# Altium footprint library CC2650RC_4MOD1106_rev1_6.PcbLib: 33 footprints (part 1 of 3)
Each footprint in its own frame and in the unit in brackets; x right, y up, seen from the top. Pads: shape width x height; smd on the part's side, far side on the other; paste and mask are expansions set on the pad; w line width, h text height; cw(c..) or ccw(c..) is an arc to the next point about the centre after c.
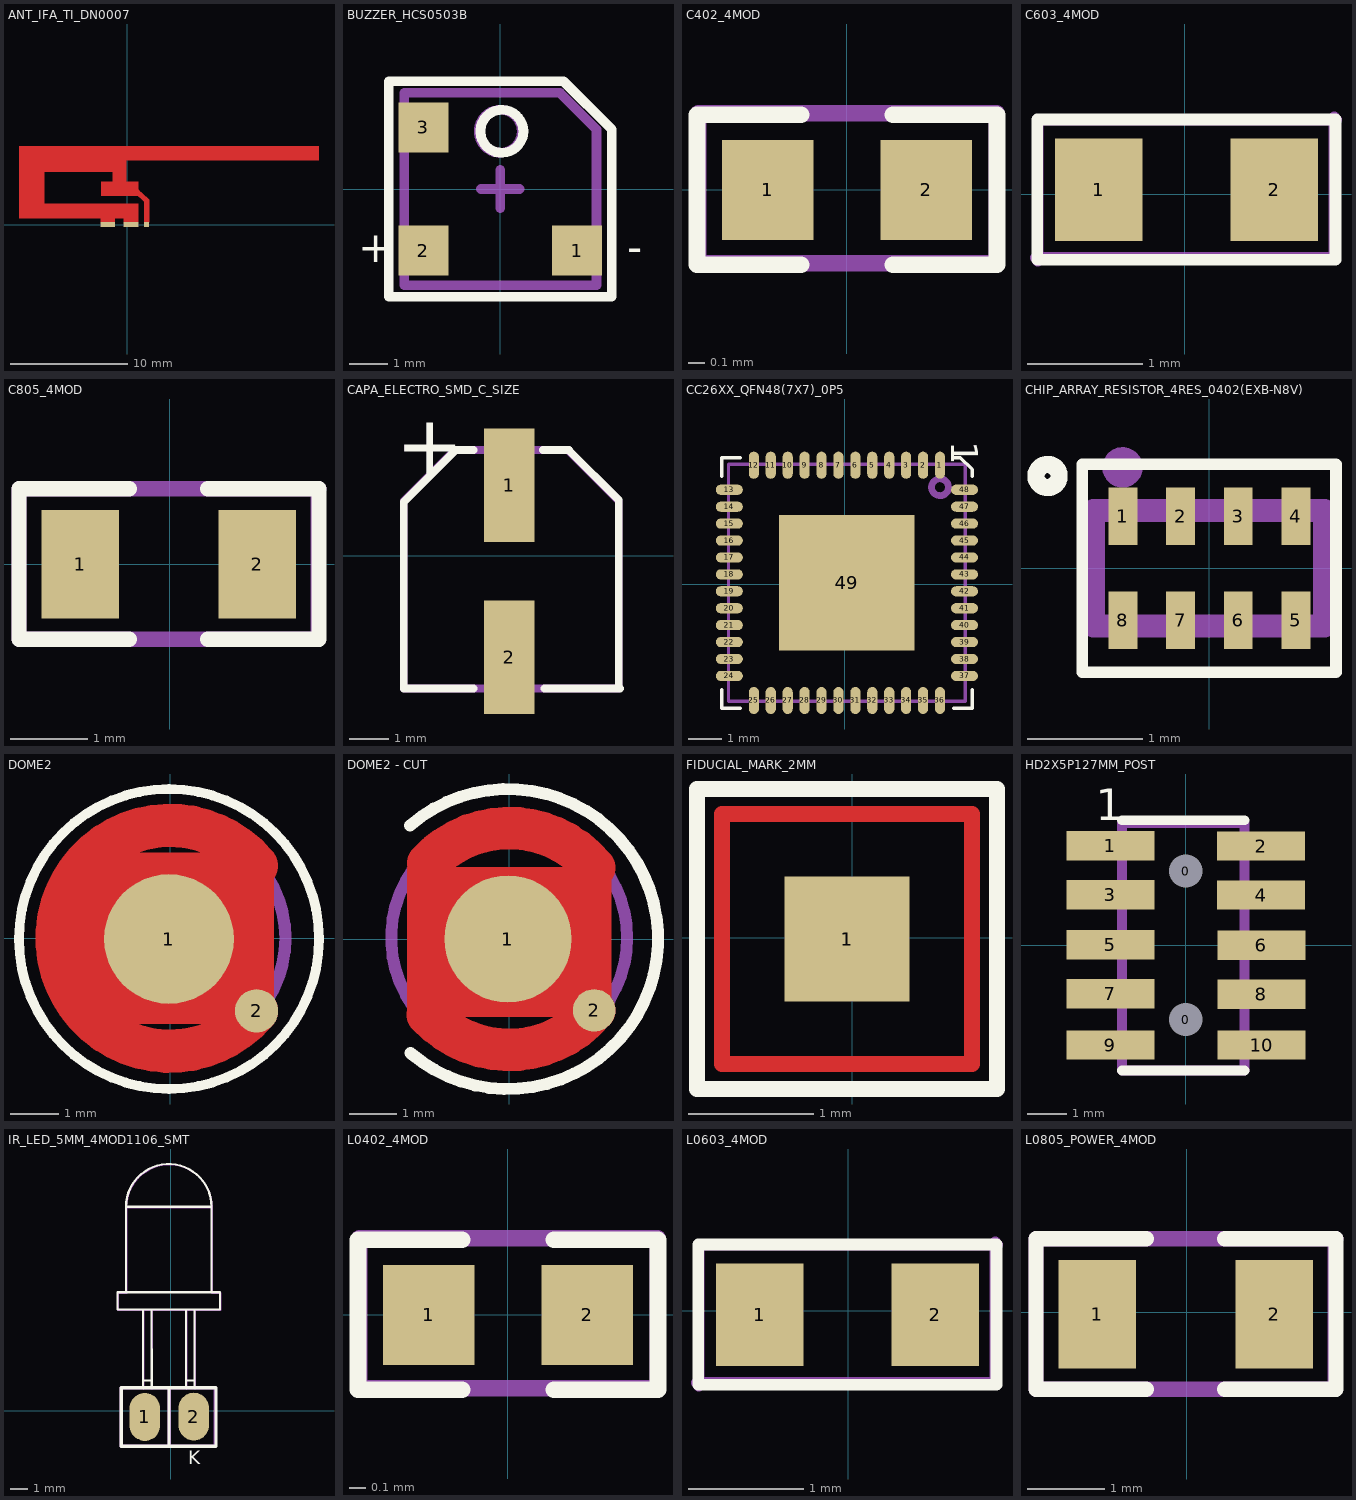
[diagram p0: the footprints below, top view; thin cyan lines are the x and y axes]

## ANT_IFA_TI_DN0007 [mm]
pads (3):
  rect 0.45x0.45 smd paste-1 mask-1: 1(1.653,-0.002)
  rect 1.25x0.45 smd paste-1 mask-1: 2(-1.652,0.003) 2(0.333,-0.002)
Top Layer:
  rectangle: -9.222,4.473 -0.041,6.682
  rectangle: -9.222,5.471 16.356,6.682
  rectangle: -9.222,0.518 -7.036,6.682
  rectangle: -9.222,0.518 0.956,1.801
  rectangle: -1.24,3.315 -0.041,4.473
  rectangle: -2.241,2.418 0.959,3.668
  rectangle: 1.422,0.175 1.885,2.014
  rectangle: -0.293,0.2 0.956,0.538
  rectangle: -2.276,0.2 -1.027,0.68
  lines w0.46: 0.823,2.828 1.658,2.031

## BUZZER_HCS0503B [mm]
pads (3):
  rect 1.3x1.3 smd: 1(2,-1.6) 2(-2,-1.6) 3(-2,1.6)
Top Overlay:
  circle w0.254: c0.041,1.5 r0.559
  lines w0.254: -2.9,-2.8 -2.9,2.8 1.65,2.8 2.9,1.55 2.9,-2.8 -2.9,-2.8
  text "-" at 3.3,-1.9 h0.8
  text "+" at -3.7,-1.9 h0.8
Mechanical 16:
  circle w0.254: c0,1.5 r0.559
  lines w0.254: -0.5,0 0.5,0 ; 0,-0.5 0,0.5 ; -2.5,-2.5 -2.5,2.5 1.55,2.5 2.5,1.55 2.5,-2.5 -2.5,-2.5
Mechanical 27:
  text ".Designator" at -2.044,1.812 h0.8
  text "-" at 0.4,-1.9 h0.8
  text "+" at -1,-1.9 h0.8
3D body: height 3.1, standoff 2.8, extent -0.446,1.051 0.45,1.949
3D body: height 3.1, standoff 2.8, extent -2.3,-2.299 -1.503,-1.501
3D body: height 3.02, standoff 0.02, extent -2.5,-2.5 2.5,2.5

## C402_4MOD [mil]
height 19.68
pads (2):
  rect 22x24 smd: 1(-19,0) 2(19,0)
Top Overlay:
  lines w4: -11,-18 -36,-18 -36,18 -11,18 ; 11,-18 36,-18 36,18 11,18
Mechanical 16:
  lines w4: -35.71,-17.17 -35.71,18.43 35.94,18.43 35.94,-17.57 -35.31,-17.57 -35.71,-17.17
Mechanical 27:
  text ".Designator" at -33.96,-8.07 h19.68
3D body "User Library-0402(1005M) Cap.step": height 20.1, standoff 0, extent -20.87,-10.84 19.13,9.16

## C603_4MOD [mil]
pads (2):
  rect 30x35 smd: 1(-29.35,1.65) 2(30.65,1.65)
Top Overlay:
  lines w4: -50.35,-22.35 51.65,-22.35 51.65,25.65 -50.35,25.65 -50.35,-22.35
Mechanical 16:
  lines w4: -50.82,-21.65 51.18,-21.65 51.18,26.35 ; -50.2,-22.64 -50.2,25.36 ; -50.2,25.59 51.8,25.59
Mechanical 27:
  text ".Designator" at -43.31,-13.78 h19.68
3D body "User Library-0603(1608M) Cap.step": height 31.1, standoff 0, extent -40.36,-14.51 38.39,16.49

## C805_4MOD [mm]
pads (2):
  rect 1x1.4 smd: 1(-1.16,0) 2(1.126,0)
Top Overlay:
  lines w0.2: -0.525,-0.97 -1.95,-0.97 -1.95,0.98 -0.525,0.98 ; 0.491,-0.97 1.925,-0.97 1.925,0.98 0.491,0.98
Mechanical 16:
  lines w0.2: 1.915,0.98 1.915,-0.97 -1.95,-0.97 -1.95,0.98 1.925,0.98
3D body "User Library-0805 SMD Capacitor.SLDPRT": height 0.78, standoff 0, extent -1,-0.625 1,0.625

## CAPA_ELECTRO_SMD_C_SIZE [mm]
pads (2):
  rect 1.3x2.9 smd: 1(14.4,1.8) 2(14.4,-2.6)
Top Overlay:
  lines w0.2: 13.486,-3.4 11.7,-3.399 11.7,1.375 13.025,2.7 13.486,2.7 ; 15.264,2.7 15.925,2.7 17.2,1.425 17.2,-3.365 ; 15.3,-3.4 17.236,-3.398
  text "+" at 11.5,2.1 h1.52
Mechanical 16:
  lines w0.2: 11.7,-3.4 11.7,1.4 13,2.7 15.9,2.7 17.2,1.4 17.2,-3.4 11.7,-3.4
Mechanical 27:
  text ".Designator" at 12.45,-0.725 h0.8
  text "+" at 11.5,2.1 h1.52
3D body "Aluminium Elektrolyt Capacitor_C_Package_D=5mm_ A_B=5.3mm_H=5.4mm.step": height 5.41, standoff 0, extent 11.825,-3.325 17.125,2.575

## CC26XX_QFN48(7X7)_0P5 [mm]
pads (49):
  oval 0.3x0.8 smd: 1(2.82,3.511) 2(2.32,3.511) 3(1.82,3.511) 4(1.32,3.511) 5(0.82,3.511) 6(0.32,3.511) 7(-0.18,3.511) 8(-0.68,3.511) 9(-1.18,3.511) 10(-1.68,3.511) 11(-2.18,3.511) 12(-2.68,3.511) 25(-2.68,-3.439) 26(-2.18,-3.439) 27(-1.68,-3.439) 28(-1.18,-3.439) 29(-0.68,-3.439) 30(-0.18,-3.439) 31(0.32,-3.439) 32(0.82,-3.439) 33(1.32,-3.439) 34(1.82,-3.439) 35(2.32,-3.439) 36(2.82,-3.439)
  oval 0.8x0.3 smd: 13(-3.405,2.786) 14(-3.405,2.286) 15(-3.405,1.786) 16(-3.405,1.286) 17(-3.405,0.786) 18(-3.405,0.286) 19(-3.405,-0.214) 20(-3.405,-0.714) 21(-3.405,-1.214) 22(-3.405,-1.714) 23(-3.405,-2.214) 24(-3.405,-2.714) 37(3.545,-2.714) 38(3.545,-2.214) 39(3.545,-1.714) 40(3.545,-1.214) 41(3.545,-0.714) 42(3.545,-0.214) 43(3.545,0.286) 44(3.545,0.786) 45(3.545,1.286) 46(3.545,1.786) 47(3.545,2.286) 48(3.545,2.786)
  rect 4x4 smd: 49(0.07,0.036)
Top Overlay:
  lines w0.1: -3.63,-3.114 -3.63,-3.664 -3.08,-3.664 ; -3.63,3.186 -3.63,3.736 -3.08,3.736 ; 3.22,-3.664 3.77,-3.664 3.77,-3.114 ; 3.22,3.736 3.42,3.736 3.77,3.386 3.77,3.186
  text "1" at 3.15,4.225 h0.8
Mechanical 16:
  circle w0.2: c2.82,2.861 r0.25
  lines w0.1: -3.43,-3.464 -3.43,3.536 3.57,3.536 3.57,-3.464 -3.43,-3.464
Mechanical 27:
  text ".Designator" at 0.869,-0.787 h0.8
3D body "User Library-QFN48_0P5_7X7mm.step": height 0.78, standoff -0.02, extent -3.43,-3.49 3.59,3.53

## CHIP_ARRAY_RESISTOR_4RES_0402(EXB-N8V) [mm]
pads (8):
  rect 0.25x0.5 smd: 1(-0.747,0.45) 2(-0.248,0.45) 3(0.252,0.45) 4(0.753,0.45) 5(0.753,-0.45) 6(0.252,-0.45) 7(-0.248,-0.45) 8(-0.747,-0.45)
Top Overlay:
  circle w0.15: c-1.4,0.8 r0.1
  lines w0.1: -1.1,-0.9 1.1,-0.9 1.1,0.9 -1.1,0.9 -1.1,-0.9
Mechanical 16:
  circle w0.15: c-0.75,0.875 r0.1
  lines w0.2: -1,-0.5 1,-0.5 1,0.5 -1,0.5 -1,-0.5
Mechanical 27:
  text ".Designator" at -0.8,-0.3 h0.7
3D body "User Library-Chip_Resistor_Array_Panasonic EXB-N8V(4x0402).stp": height 0.37, standoff -0.01, extent -1,-0.502 1,0.502

## DOME2 [mm] "footprint for metal dome"
pads (2):
  round 2.7 smd: 1(-0.022,-0.015)
  round 0.9 smd: 2(1.8,-1.511)
Top Layer:
  pour cut-out: -2.032,1.778 2.159,1.778 2.159,-1.778 -2.032,-1.778
  lines w0.9: 1.8,-1.511 cw(c0,0) 1.8,1.511
Top Overlay:
  circle w0.203: c-0.022,-0.015 r3.121
Top Solder:
  lines w1.1: 1.8,-1.511 cw(c0,0) 1.8,1.511
Mechanical 16:
  circle w0.254: c0,0 r2.4
Mechanical 25:
  text ".Designator" at -1.925,-0.425 h1

## DOME2 - CUT [mm] "footprint for metal dome"
pads (2):
  round 2.7 smd: 1(-0.025,0)
  round 0.9 smd: 2(1.8,-1.511)
Top Layer:
  rectangle: -2.159,-1.524 -1.905,1.524
  pour cut-out: -1.905,1.524 2.159,1.524 2.159,-1.651 -1.905,-1.651
  lines w0.254: -1.906,-0.68 cw(c-0.025,0) -1.859,0.797
  lines w0.35: -1.954,-0.698 ccw(c0,0) -1.296,-1.62 ; -1.954,0.698 cw(c0,0) -1.296,1.62
  lines w0.9: -1.722,-1.599 ccw(c0,0) 1.8,-1.511 ; -1.718,1.603 cw(c0,0) 1.8,1.511
Top Overlay:
  lines w0.254: -2.103,2.403 cw(c-0.025,0) -2.09,-2.414
Top Solder:
  lines w0.4: -2.05,-1.524 -2.05,1.552
  lines w0.45: -1.906,-0.68 cw(c-0.025,0) -1.859,0.797
  lines w0.55: -1.954,-0.698 ccw(c0,0) -1.296,-1.62 ; -1.954,0.698 cw(c0,0) -1.296,1.62
  lines w1.1: -1.722,-1.599 ccw(c0,0) 1.8,-1.511 ; -1.719,1.603 cw(c0,0) 1.8,1.511
Mechanical 16:
  circle w0.254: c0,0.025 r2.5
Mechanical 25:
  text ".Designator" at 1.65,0.575 h1

## FIDUCIAL_MARK_2MM [mm]
pads (2):
  rect 1x1 smd: 1(-0.042,-0.011)
  rect 2.2x2.2 on Top Solder: 1(-0.042,-0.011)
Top Layer:
  lines w0.127: -1.042,-1.011 -1.042,0.989 0.958,0.989 0.958,-1.011 -1.042,-1.011
Top Overlay:
  lines w0.127: -1.242,-1.211 -1.242,1.189 1.158,1.189 1.158,-1.211 -1.242,-1.211

## HD2X5P127MM_POST [mm] "Header 10 contacts , pitch 1,27mm, 2 rows"
height 6
pads (12):
  round 0.4 hole 0.85: 0(0,-1.9) 0(0,1.9)
  rect 2.25x0.75 smd: 1(-1.928,2.551) 2(1.928,2.539) 3(-1.928,1.298) 4(1.928,1.285) 5(-1.928,0.016) 6(1.933,0.003) 7(-1.928,-1.239) 8(1.935,-1.251) 9(-1.928,-2.551) 10(1.94,-2.551)
Top Overlay:
  lines w0.254: -1.631,3.2 1.5,3.2 ; -1.627,-3.2 1.504,-3.2
  text "1" at -2.3,3.2 h0.8
Mechanical 16:
  lines w0.254: 1.498,3.06 1.498,-3.2 -1.627,-3.2 -1.627,3.135 1.498,3.135
Mechanical 27:
  text "1" at -2.3,2.2 h0.8
  text ".Designator" at -0.386,0.102 h0.8
3D body "Harwin_m50-3600542_asm.stp": height 4.68, standoff 0, extent -2.75,-3.215 2.75,3.135

## IR_LED_5MM_4MOD1106_SMT [mm]
pads (2):
  oval 1.8x2.8 smd: 1(-1.529,-0.349) 2(1.335,-0.331)
Top Overlay:
  lines w0.127: -2.629,6.939 -2.629,11.939 ; -1.629,1.789 -1.129,1.789 ; -1.629,5.939 -1.625,1.325 ; -1.129,5.939 -1.125,1.35 ; 0.871,1.789 1.371,1.789 ; 0.871,5.939 0.875,1.325 ; 1.371,5.939 1.375,1.325 ; 2.371,6.939 2.371,11.939 ; -2.629,11.939 cw(c-0.129,11.939) 2.371,11.939 ; -2.629,11.939 2.371,11.939 ; -3.129,5.939 2.871,5.939 2.871,6.939 -3.129,6.939 -3.129,5.939
  lines w0.2: -0.116,-1.97 -0.116,1.311 ; -2.895,-2.05 2.631,-2.05 2.631,1.35 -2.895,1.35 -2.895,-2.05
  text "K" at 1,-3.1 h0.8
Mechanical 16:
  lines w0.1: -2.6,11.9 cw(c-0.1,11.9) 2.4,11.9 ; -2.6,11.9 -2.6,6.9 -3.1,6.9 -3.1,5.9 2.9,5.9 2.9,6.9 2.4,6.9 2.4,11.9 ; -2.6,11.9 2.4,11.9
  lines w0.127: -1.6,1.3 -1.6,5.9 ; -1.1,1.3 -1.1,5.9 ; 0.9,1.3 0.9,5.9 ; 1.4,1.3 1.4,5.9
  lines w0.2: -0.1,-2 -0.1,1.28 ; -2.9,-2.05 2.6,-2.05 2.6,1.35 -2.9,1.35 -2.9,-2.05
Mechanical 27:
  text "K" at 1,-0.9 h0.8
  text ".Designator" at -1.7,7.5 h0.8
3D body "IR_LED_5MM_4MOD1106_SMD.step": height 7.56, standoff 0.15, extent -3.2,-1.505 2.8,16.155

## L0402_4MOD [mil]
height 7.87
pads (2):
  rect 22x24 smd: 1(-19,0) 2(19,0)
Top Overlay:
  lines w4: -11,-18 -36,-18 -36,18 -11,18 ; 11,-18 36,-18 36,18 11,18
Mechanical 16:
  lines w4: -35.71,17.87 -35.71,-17.57 35.95,-17.57 35.95,18.43 -35.71,18.43
Mechanical 27:
  text ".Designator" at -23.11,-9.59 h19.68
3D body "User Library-Chip Inductor-1005(0402M).step": height 19.29, standoff -0.39, extent -19.57,-11.66 19.8,11.96

## L0603_4MOD [mil]
height 19.68
pads (2):
  rect 30x35 smd: 1(-30.33,-1.31) 2(29.67,-1.31)
Top Overlay:
  lines w4: -51.33,-25.31 50.67,-25.31 50.67,22.69 -51.33,22.69 -51.33,-25.31
Mechanical 16:
  lines w4: -51.8,-24.61 50.2,-24.61 50.2,23.39 ; -51.18,-25.59 -51.18,22.41 ; -51.18,22.64 50.82,22.64
Mechanical 27:
  text ".Designator" at -44.29,-15.75 h19.68
3D body "User Library-Chip Inductor -1608(0603M).step": height 31.5, standoff 0, extent -32.48,-20.67 30.51,16.73

## L0805_POWER_4MOD [mm]
pads (2):
  rect 1x1.4 smd: 1(-1.16,-0.03) 2(1.126,-0.03)
Top Overlay:
  lines w0.2: -0.525,-1 -1.95,-1 -1.95,0.95 -0.525,0.95 ; 0.491,-1 1.925,-1 1.925,0.95 0.491,0.95
Mechanical 16:
  lines w0.2: 1.915,0.95 1.915,-1 -1.95,-1 -1.95,0.95 1.925,0.95
Mechanical 27:
  text ".Designator" at -0.562,-0.569 h1
3D body "User Library-Chip Inductor -2012( 0805M).step": height 1, standoff 0.05, extent -1.05,-0.6 0.95,0.6